# EAGLE library part RTC (library Virulent_HW)
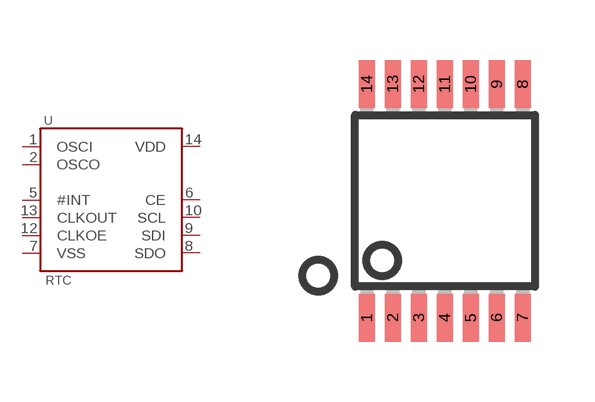
[diagram p6: symbol with the pads of TSSOP14; footprint TSSOP14]

Designator prefix -

## RTC  [TSSOP14]
1  OSCI
2  OSCO
5  #INT
6  CE  in
7  VSS  pwr
8  SDO  out
9  SDI  in
10  SCL  in
12  CLKOE  in
13  CLKOUT
14  VDD  pwr

## Footprint TSSOP14 (pad centres in mm)
smd 0.4 x 1.2: 1 -2.275,-2.925; 2 -1.625,-2.925; 3 -0.975,-2.925; 4 -0.325,-2.925; 5 0.325,-2.925; 6 0.975,-2.925; 7 1.625,-2.925; 8 1.625,2.925; 9 0.975,2.925; 10 0.325,2.925; 11 -0.325,2.925; 12 -0.975,2.925; 13 -1.625,2.925; 14 -2.275,2.925